# Altium schematic symbol library 2N2222.SchLib: 1 symbol
Pins are listed as number, name and electrical type; pins without a type are passive.

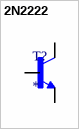
[diagram p0: symbol 2N2222]

## 2N2222
designator T?
Bipolar (BJT) Transistor NPN 40V 800mA 300MHz 500mW Through Hole TO-18; MF: ON Semiconductor; MP: 2N2222; Price: None; Availability: In Stock; Purchase-URL: https://pricing.snapeda.com/search/part/2N2222/?ref=eda; Package: TO-18 Central Semiconductor; SnapEDA_Link: https://www.snapeda.com/parts/2N2222/Onsemi/view-part/?ref=snap; Value: *; Check_prices: https://www.snapeda.com/parts/2N2222/Onsemi/view-part/?ref=eda
footprint TO92-EBC-OVAL
pins: B, C, E